# Altium schematic symbol library NHD-0420D3Z.SchLib: 1 symbol
Pins are listed as number, name and electrical type; pins without a type are passive.

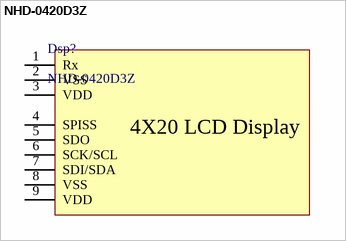
[diagram p0: symbol NHD-0420D3Z]

## NHD-0420D3Z
designator Dsp?
4 X 20 LCD Display
pins: 1 Rx, 2 VSS, 3 VDD, 4 SPISS, 5 SDO, 6 SCK/SCL, 7 SDI/SDA, 8 VSS, 9 VDD
text: 4X20 LCD Display